# Altium footprint library F 发光管.PCBLIB: 40 footprints (part 1 of 3)
Each footprint in its own frame and in the unit in brackets; x right, y up, seen from the top. Pads: shape width x height; smd on the part's side, far side on the other; paste and mask are expansions set on the pad; w line width, h text height; cw(c..) or ccw(c..) is an arc to the next point about the centre after c.
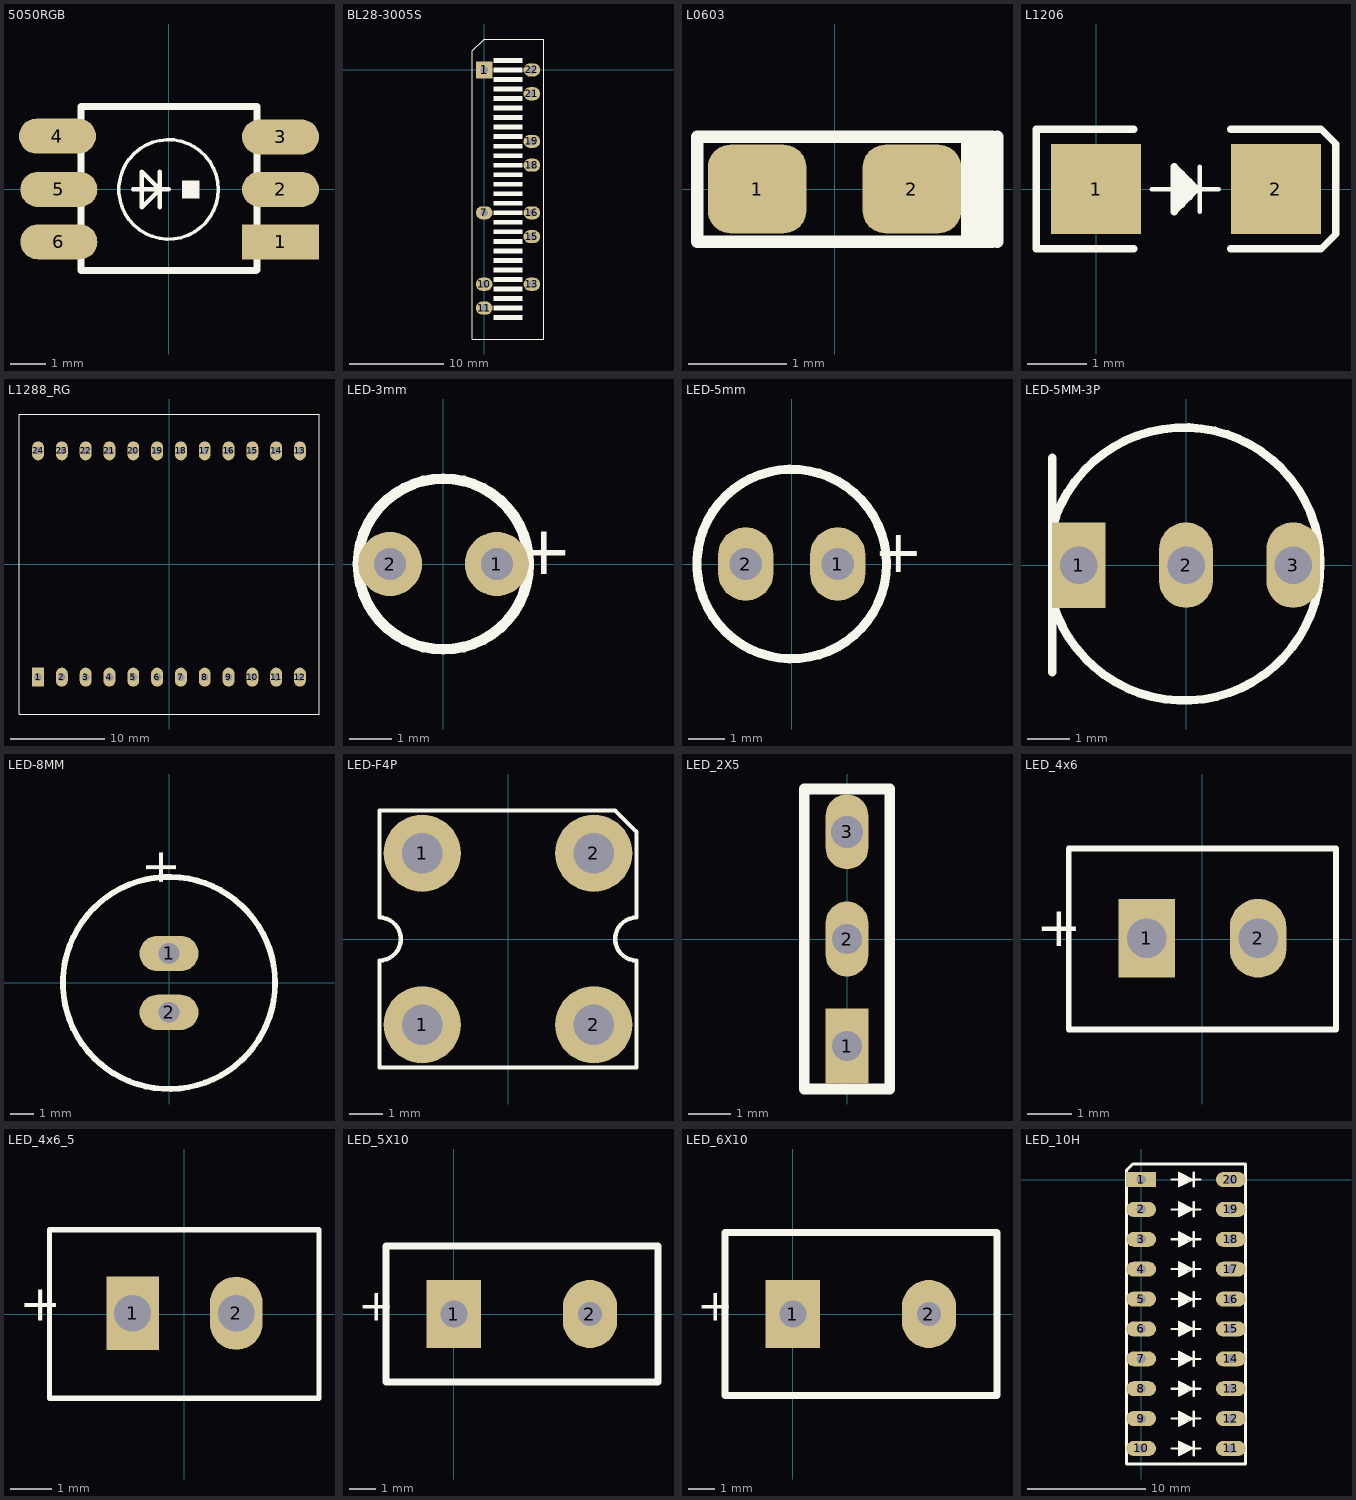
[diagram p0: the footprints below, top view; thin cyan lines are the x and y axes]

## 5050RGB [mm]
pads (6):
  rect 2.2x1 smd: 1(3.2,-1.5)
  oval 2.2x1 smd: 2(3.2,0) 3(3.2,1.5) 4(-3.175,1.524) 5(-3.135,0) 6(-3.135,-1.5)
Top Overlay:
  circle w0.1: c0,0 r1.421
  rectangle: 0.381,-0.254 0.889,0.254
  lines w0.127: -1.016,0 0,0 ; -0.254,-0.508 -0.254,0.508 ; -0.762,-0.508 -0.254,0 -0.762,0.508 -0.762,-0.508
  lines w0.2: -2.5,2.35 -2.5,-2.324 2.499,-2.324 2.524,-2.299 2.524,2.375 -2.5,2.375

## BL28-3005S [mil] "28线光柱"
pads (11):
  rect 70x70 hole 32: 1(0,0)
  oval 70x55 hole 32: 7(0,-600) 10(0,-900) 11(0,-1000) 13(200,-900) 15(200,-700) 16(200,-600) 18(200,-400) 19(200,-300) 21(200,-100) 22(200,0)
Top Overlay:
  rectangle: 40,-50 160,-30
  rectangle: 40,-10 160,10
  rectangle: 40,30 160,50
  rectangle: 40,-90 160,-70
  rectangle: 40,-130 160,-110
  rectangle: 40,-170 160,-150
  rectangle: 40,-210 160,-190
  rectangle: 40,-490 160,-470
  rectangle: 40,-450 160,-430
  rectangle: 40,-410 160,-390
  rectangle: 40,-370 160,-350
  rectangle: 40,-250 160,-230
  rectangle: 40,-290 160,-270
  rectangle: 40,-330 160,-310
  rectangle: 40,-770 160,-750
  rectangle: 40,-730 160,-710
  rectangle: 40,-690 160,-670
  rectangle: 40,-650 160,-630
  rectangle: 40,-530 160,-510
  rectangle: 40,-570 160,-550
  rectangle: 40,-610 160,-590
  rectangle: 40,-1050 160,-1030
  rectangle: 40,-1010 160,-990
  rectangle: 40,-970 160,-950
  rectangle: 40,-930 160,-910
  rectangle: 40,-810 160,-790
  rectangle: 40,-850 160,-830
  rectangle: 40,-890 160,-870
  lines w5: -50,-1130 250,-1130 250,130 0,130 -50,80 -50,-1130

## L0603 [mm] "贴片发光二极管"
pads (2):
  rrect50% 1x0.9 smd: 1(-0.787,0) 2(0.787,0)
Top Overlay:
  lines w0.127: 1.346,-0.533 1.346,0.533 ; 1.397,-0.533 1.397,0.533 ; 1.524,-0.533 1.524,0.533 ; 1.651,-0.533 1.651,0.533 ; -1.397,-0.533 -1.397,0.533 1.6,0.533 1.6,-0.533 -1.397,-0.533

## L1206 [mil] "贴片发光二极管"
pads (2):
  rect 60x60 smd: 1(0,0) 2(120,0)
Top Overlay:
  lines w3: 37,0 82,0 ; 69,-15 69,15
  lines w5: 25,-40 -40,-40 -40,40 25,40 ; 57,-10 57,10 ; 62,-5 62,5 ; 90,-40 150,-40 160,-30 160,30 150,40 90,40 ; 52,-15 52,15 67,0 52,-15

## L1288_RG [mil] "点阵块/红绿色"
pads (24):
  rect 50x80 hole 32: 1(-550,-475)
  oval 50x80 hole 32: 2(-450,-475) 3(-350,-475) 4(-250,-475) 5(-150,-475) 6(-50,-475) 7(50,-475) 8(150,-475) 9(250,-475) 10(350,-475) 11(450,-475) 12(550,-475) 13(550,475) 14(450,475) 15(350,475) 16(250,475) 17(150,475) 18(50,475) 19(-50,475) 20(-150,475) 21(-250,475) 22(-350,475) 23(-450,475) 24(-550,475)
Top Overlay:
  lines w5: -629.92,-629.92 -629.92,629.92 629.92,629.92 629.92,-629.92 -629.92,-629.92

## LED-3mm [mil] "LED-3MM"
pads (2):
  round 60 hole 30: 1(50,0) 2(-50,0)
Top Overlay:
  circle w10: c0,0 r80
  text "+" at 121,-25 h80

## LED-5mm [mil] "LED-5mm"
pads (2):
  oval 60x80 hole 35: 1(50,0) 2(-50,0)
Top Overlay:
  circle w10: c0,0 r102.96
  text "+" at 143,-24 h80

## LED-5MM-3P [mil]
pads (3):
  rect 50x80 hole 35: 1(-100,0)
  oval 50x80 hole 35: 2(0,0) 3(100,0)
Top Overlay:
  lines w8: -124.86,-100 -124.86,100 ; -124.86,34.96 cw(c-1.98,1.03) -124.32,-34.8

## LED-8MM [mil] "8MM发光管"
pads (2):
  oval 100x60 hole 35: 1(0,50) 2(0,-50)
Top Overlay:
  circle w10: c0,0 r180
  text "+" at 32,229 h100

## LED-F4P [mil] "LED食人鱼"
pads (4):
  round 90 hole 47: 1(-100,-100) 1(-100,100) 2(100,-100) 2(100,100)
Top Overlay:
  lines w5: -150,-150 150,-150 150,-25 cw(c150,0) 150,25 150,125 125,150 -150,150 -150,25 cw(c-150,0) -150,-25 -150,-150

## LED_2X5 [mil] "双色发光二极管"
pads (3):
  rect 40x70 hole 28: 1(0,-100)
  oval 40x70 hole 28: 2(0,0)
  oval 40x70 hole 30: 3(0,100)
Top Overlay:
  lines w10: -40,-140 -40,140 40,140 40,-140 -40,-140

## LED_4x6 [mil] "平面发光管/长6mm/宽4mm/高5.33mm"
height 209.84
pads (2):
  rect 50x69.69 hole 35: 1(-49.1,0.74)
  oval 50x69.69 hole 35: 2(49.32,0.74)
Top Overlay:
  lines w5: -118,-80 -118,80 118.22,80 118.22,-80 -118,-80
  text "+" at -147,-18 h60

## LED_4x6_5 [mil] "平面发光管/长6.5mm/宽4mm/高5.33mm"
height 209.84
pads (2):
  rect 50x69.69 hole 35: 1(-49.1,0.74)
  oval 50x69.69 hole 35: 2(49.32,0.74)
Top Overlay:
  lines w5: 128,79 128,-80 -128,-80 -128,80 128,80
  text "+" at -157,-18 h60

## LED_5X10 [mil] "平面发光管/长10mm/宽5mm/高mm"
pads (2):
  rect 80x100 hole 40: 1(0,0)
  oval 80x100 hole 35: 2(200,0)
Top Overlay:
  lines w10: -100,-100 300,-100 300,100 -100,100 -100,-100
  text "+" at -141,-25 h80

## LED_6X10 [mil] "平面发光管/长10mm/宽5mm/高mm"
pads (2):
  rect 80x100 hole 40: 1(0,0)
  oval 80x100 hole 35: 2(200,0)
Top Overlay:
  lines w10: -100,-120 -100,0 -100,120 300,120 300,-120 -100,-120
  text "+" at -141,-25 h80

## LED_10H [mm] "10线光柱/25.3X10.1"
height 8
pads (20):
  rect 2.54x1.27 hole 0.8: 1(0,0)
  oval 2.54x1.27 hole 0.8: 2(0,-2.54) 3(0,-5.08) 4(0,-7.62) 5(0,-10.16) 6(0,-12.7) 7(0,-15.24) 8(0,-17.78) 9(0,-20.32) 10(0,-22.86) 11(7.62,-22.86) 12(7.62,-20.32) 13(7.62,-17.78) 14(7.62,-15.24) 15(7.62,-12.7) 16(7.62,-10.16) 17(7.62,-7.62) 18(7.62,-5.08) 19(7.62,-2.54) 20(7.62,0)
Top Overlay:
  drawing of 195 lines, arcs and shapes, not listed